# EAGLE library part ESP8266 (library OLIMEX_IC)
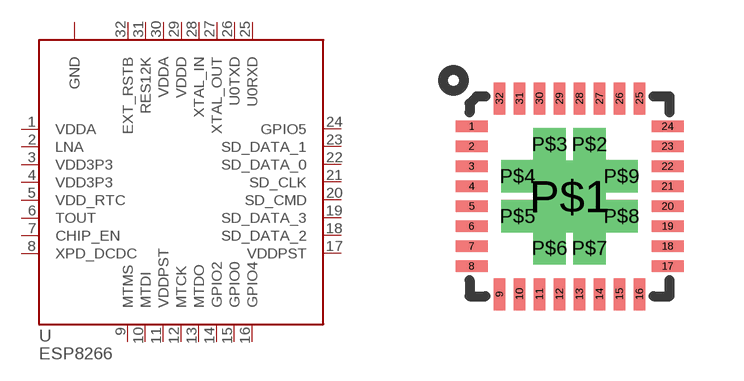
[diagram p0: symbol with the pads of QFN32_PAD; footprint QFN32_PAD]

Designator prefix U

## ESP8266  [QFN32_PAD]
1  VDDA
2  LNA
3  VDD3P3
4  VDD3P3
5  VDD_RTC
6  TOUT
7  CHIP_EN
8  XPD_DCDC
9  MTMS
10  MTDI
11  VDDPST
12  MTCK
13  MTDO
14  GPIO2
15  GPIO0
16  GPIO4
17  VDDPST
18  SD_DATA_2
19  SD_DATA_3
20  SD_CMD
21  SD_CLK
22  SD_DATA_0
23  SD_DATA_1
24  GPIO5
25  U0RXD
26  U0TXD
27  XTAL_OUT
28  XTAL_IN
29  VDDD
30  VDDA
31  RES12K
32  EXT_RSTB

## Footprint QFN32_PAD (pad centres in mm)
smd 0.8 x 0.28: 1 -2.45,1.75; 2 -2.45,1.25; 3 -2.45,0.75; 4 -2.45,0.25; 5 -2.45,-0.25; 6 -2.45,-0.75; 7 -2.45,-1.25; 8 -2.45,-1.75; 17 2.45,-1.75; 18 2.45,-1.25; 19 2.45,-0.75; 20 2.45,-0.25; 21 2.45,0.25; 22 2.45,0.75; 23 2.45,1.25; 24 2.45,1.75
smd 0.28 x 0.8: 9 -1.75,-2.45; 10 -1.25,-2.45; 11 -0.75,-2.45; 12 -0.25,-2.45; 13 0.25,-2.45; 14 0.75,-2.45; 15 1.25,-2.45; 16 1.75,-2.45; 25 1.75,2.45; 26 1.25,2.45; 27 0.75,2.45; 28 0.25,2.45; 29 -0.25,2.45; 30 -0.75,2.45; 31 -1.25,2.45; 32 -1.75,2.45
drill 1.2 pad 1.422 square: P$1 0,0
drill 0.3 pad 0.4 square: P$2 0.5,1.3; P$3 -0.5,1.3; P$4 -1.3,0.5; P$5 -1.3,-0.5; P$6 -0.5,-1.3; P$7 0.5,-1.3; P$8 1.3,-0.5; P$9 1.3,0.5